# EAGLE library part NCP3064 (library vreg-linear)
IC REG BCK BST INV ADJ
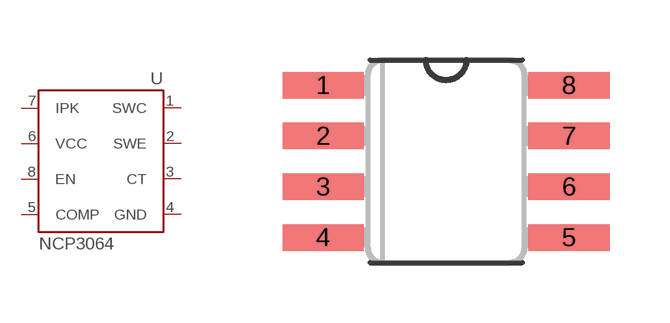
[diagram p5: symbol with the pads of SOIC8; footprint SOIC8]

Designator prefix U

## NCP3064 (DIGIKEY: NCP3064DR2GOSCT-ND; MFR: ON Semiconductor; MPN: NCP3064DR2G; P1I: o)  [SOIC8]
1  SWC
2  SWE
3  CT
4  GND
5  COMP
6  VCC
7  IPK
8  EN

## Footprint SOIC8 (pad centres in mm)
Small Outline Package
smd 2.032 x 0.66: 1 -3.073,1.905; 2 -3.073,0.635; 3 -3.073,-0.635; 4 -3.073,-1.905; 5 3.073,-1.905; 6 3.073,-0.635; 7 3.073,0.635; 8 3.073,1.905